# Altium schematic symbol library FIDU-DOT.Schlib: 1 symbol
Pins are listed as number, name and electrical type; pins without a type are passive.

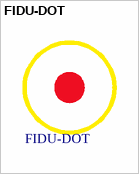
[diagram p0: symbol FIDU-DOT]

## FIDU-DOT
designator PM?  (no BOM)